# Altium footprint library RHD2000_eval_board.PCBLIB: 44 footprints (part 3 of 3)
Each footprint in its own frame and in the unit in brackets; x right, y up, seen from the top. Pads: shape width x height; smd on the part's side, far side on the other; paste and mask are expansions set on the pad; w line width, h text height; cw(c..) or ccw(c..) is an arc to the next point about the centre after c.
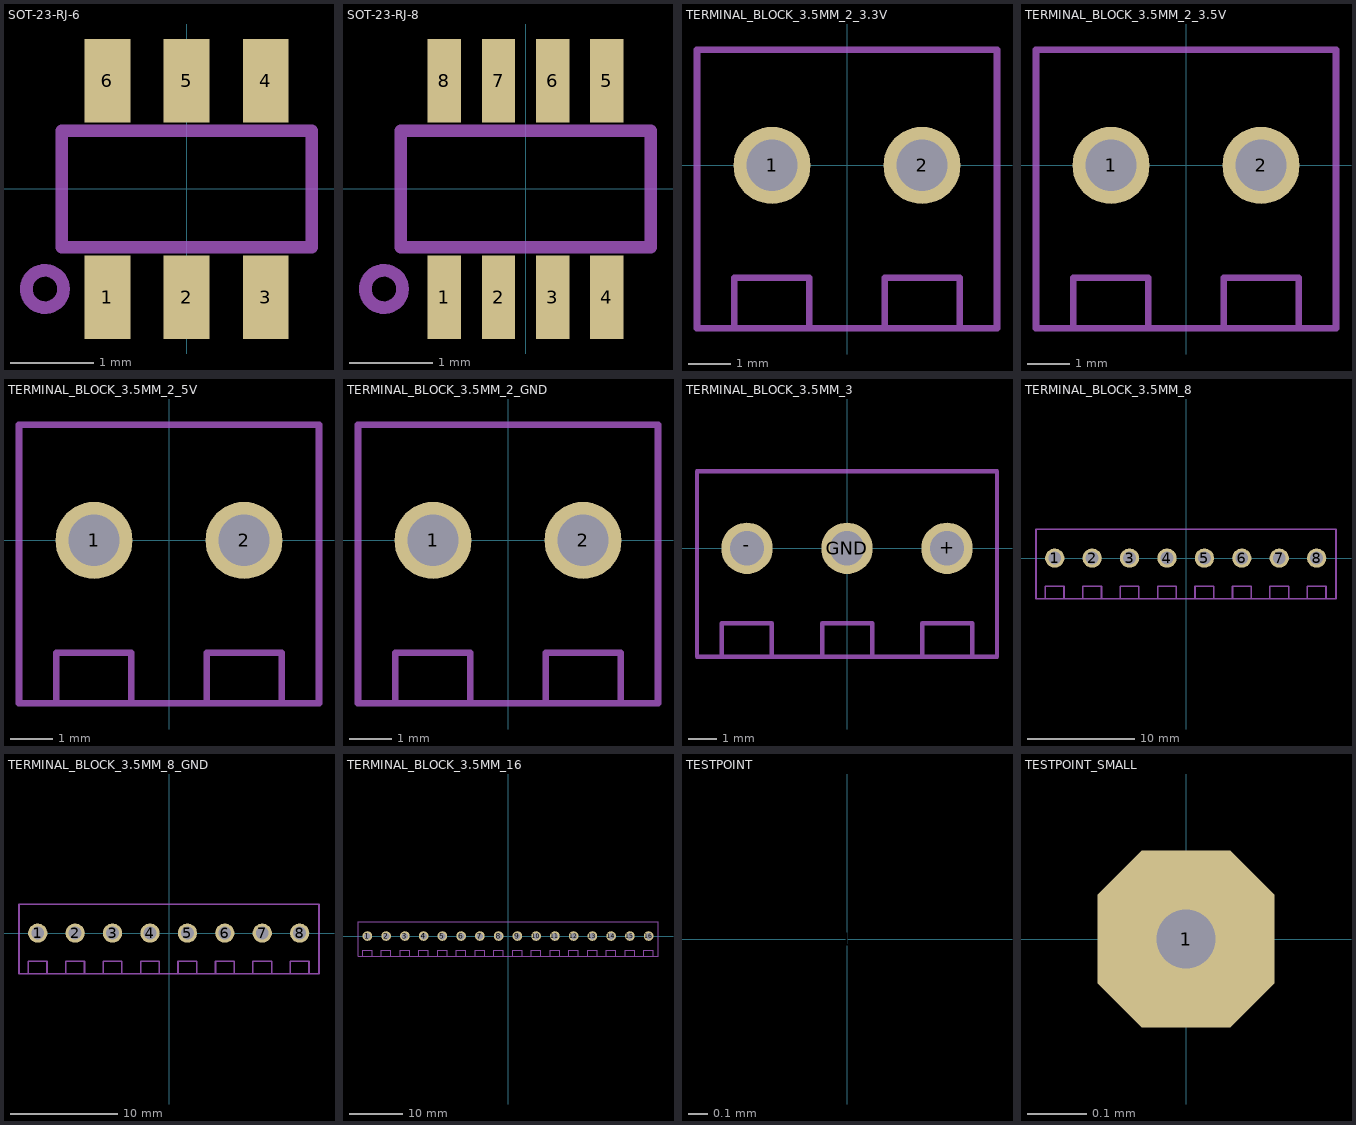
[diagram p2: the footprints below, top view; thin cyan lines are the x and y axes]

## SOT-23-RJ-6 [mm]
pads (6):
  rect 0.55x1 smd: 1(-0.95,-1.3) 2(0,-1.3) 3(0.95,-1.3) 4(0.95,1.3) 5(0,1.3) 6(-0.95,1.3)
Mechanical 22:
  circle w0.152: c-1.7,-1.2 r0.224
  lines w0.152: -1.5,-0.7 -1.5,0.7 1.5,0.7 1.5,-0.7 -1.5,-0.7

## SOT-23-RJ-8 [mm]
pads (8):
  rect 0.4x1 smd: 1(-0.975,-1.3) 2(-0.325,-1.3) 3(0.325,-1.3) 4(0.975,-1.3) 5(0.975,1.3) 6(0.325,1.3) 7(-0.325,1.3) 8(-0.975,1.3)
Mechanical 22:
  circle w0.152: c-1.7,-1.2 r0.224
  lines w0.152: -1.5,-0.7 1.5,-0.7 1.5,0.7 -1.5,0.7 -1.5,-0.7

## TERMINAL_BLOCK_3.5MM_2_3.3V [mil]
pads (2):
  round 70.86 / inner round 60 / far side round 70.86 hole 47.24: 1(-68.9,0) 2(68.9,0)
Mechanical 22:
  lines w6: -103.54,-149.61 -34.65,-149.61 ; -103.54,-149.61 -137.8,-149.61 -137.8,106.3 137.8,106.3 137.8,-149.61 103.54,-149.61 ; -103.54,-149.61 -103.54,-103.35 -34.65,-103.35 -34.65,-149.61 ; -34.65,-149.61 34.65,-149.61 ; 34.65,-149.61 103.54,-149.61 ; 34.65,-149.61 34.65,-103.35 103.54,-103.35 103.54,-149.61

## TERMINAL_BLOCK_3.5MM_2_3.5V [mil]
pads (2):
  round 70.86 / inner round 60 / far side round 70.86 hole 47.24: 1(-68.9,0) 2(68.9,0)
Mechanical 22:
  lines w6: -103.54,-149.61 -34.65,-149.61 ; -103.54,-149.61 -137.8,-149.61 -137.8,106.3 137.8,106.3 137.8,-149.61 103.54,-149.61 ; -103.54,-149.61 -103.54,-103.35 -34.65,-103.35 -34.65,-149.61 ; -34.65,-149.61 34.65,-149.61 ; 34.65,-149.61 103.54,-149.61 ; 34.65,-149.61 34.65,-103.35 103.54,-103.35 103.54,-149.61

## TERMINAL_BLOCK_3.5MM_2_5V [mil]
pads (2):
  round 70.86 / inner round 60 / far side round 70.86 hole 47.24: 1(-68.9,0) 2(68.9,0)
Mechanical 22:
  lines w6: -103.54,-149.61 -34.65,-149.61 ; -103.54,-149.61 -137.8,-149.61 -137.8,106.3 137.8,106.3 137.8,-149.61 103.54,-149.61 ; -103.54,-149.61 -103.54,-103.35 -34.65,-103.35 -34.65,-149.61 ; -34.65,-149.61 34.65,-149.61 ; 34.65,-149.61 103.54,-149.61 ; 34.65,-149.61 34.65,-103.35 103.54,-103.35 103.54,-149.61

## TERMINAL_BLOCK_3.5MM_2_GND [mil]
pads (2):
  round 70.86 / inner round 60 / far side round 70.86 hole 47.24: 1(-68.9,0) 2(68.9,0)
Mechanical 22:
  lines w6: -103.54,-149.61 -34.65,-149.61 ; -103.54,-149.61 -137.8,-149.61 -137.8,106.3 137.8,106.3 137.8,-149.61 103.54,-149.61 ; -103.54,-149.61 -103.54,-103.35 -34.65,-103.35 -34.65,-149.61 ; -34.65,-149.61 34.65,-149.61 ; 34.65,-149.61 103.54,-149.61 ; 34.65,-149.61 34.65,-103.35 103.54,-103.35 103.54,-149.61

## TERMINAL_BLOCK_3.5MM_3 [mil]
pads (3):
  round 70.86 / inner round 60 / far side round 70.86 hole 47.24: +(137.8,0) -(-137.8,0) GND(0,0)
Mechanical 22:
  lines w6: 103.54,-149.61 103.54,-103.35 172.44,-103.35 172.44,-149.61 ; -172.44,-149.61 -103.54,-149.61 ; -172.44,-149.61 -206.69,-149.61 -206.69,106.3 206.69,106.3 206.69,-149.61 34.65,-149.61 ; -172.44,-149.61 -172.44,-103.35 -103.54,-103.35 -103.54,-149.61 ; -103.54,-149.61 -34.25,-149.61 ; -34.25,-149.61 34.65,-149.61 ; -34.25,-149.61 -34.25,-103.35 34.65,-103.35 34.65,-149.61

## TERMINAL_BLOCK_3.5MM_8 [mm]
pads (8):
  round 1.8 / inner round 1.524 / far side round 1.8 hole 1.2: 1(-12.28,0) 2(-8.78,0) 3(-5.28,0) 4(-1.78,0) 5(1.72,0) 6(5.22,0) 7(8.72,0) 8(12.22,0)
Mechanical 22:
  lines w0.152: -9.655,-3.8 -9.655,-2.625 -7.905,-2.625 -7.905,-3.8 ; -6.155,-3.8 -6.155,-2.625 -4.405,-2.625 -4.405,-3.8 ; -2.655,-3.8 -2.655,-2.625 -0.905,-2.625 -0.905,-3.8 ; 0.845,-3.8 0.845,-2.625 2.595,-2.625 2.595,-3.8 ; 4.345,-3.8 4.345,-2.625 6.095,-2.625 6.095,-3.8 ; 7.845,-3.8 7.845,-2.625 9.595,-2.625 9.595,-3.8 ; 11.345,-3.8 11.345,-2.625 13.095,-2.625 13.095,-3.8 ; -13.155,-3.8 -13.155,-2.625 -11.405,-2.625 -11.405,-3.8 ; -13.155,-3.8 -14.03,-3.8 -14.03,2.7 14.03,2.7 14.03,-3.8 -11.405,-3.8 ; -13.155,-3.8 -11.405,-3.8

## TERMINAL_BLOCK_3.5MM_8_GND [mm]
pads (8):
  round 1.8 / inner round 1.524 / far side round 1.8 hole 1.2: 1(-12.28,0) 2(-8.78,0) 3(-5.28,0) 4(-1.78,0) 5(1.72,0) 6(5.22,0) 7(8.72,0) 8(12.22,0)
Mechanical 22:
  lines w0.152: -9.655,-3.8 -9.655,-2.625 -7.905,-2.625 -7.905,-3.8 ; -6.155,-3.8 -6.155,-2.625 -4.405,-2.625 -4.405,-3.8 ; -2.655,-3.8 -2.655,-2.625 -0.905,-2.625 -0.905,-3.8 ; 0.845,-3.8 0.845,-2.625 2.595,-2.625 2.595,-3.8 ; 4.345,-3.8 4.345,-2.625 6.095,-2.625 6.095,-3.8 ; 7.845,-3.8 7.845,-2.625 9.595,-2.625 9.595,-3.8 ; 11.345,-3.8 11.345,-2.625 13.095,-2.625 13.095,-3.8 ; -13.155,-3.8 -11.405,-3.8 ; -13.155,-3.8 -14.03,-3.8 -14.03,2.7 14.03,2.7 14.03,-3.8 -11.405,-3.8 ; -13.155,-3.8 -13.155,-2.625 -11.405,-2.625 -11.405,-3.8

## TERMINAL_BLOCK_3.5MM_16 [mm]
pads (16):
  round 1.8 / inner round 1.524 / far side round 1.8 hole 1.2: 1(-26.25,0) 2(-22.75,0) 3(-19.25,0) 4(-15.75,0) 5(-12.25,0) 6(-8.75,0) 7(-5.25,0) 8(-1.75,0) 9(1.75,0) 10(5.25,0) 11(8.75,0) 12(12.25,0) 13(15.75,0) 14(19.25,0) 15(22.75,0) 16(26.25,0)
Mechanical 22:
  lines w0.152: -23.625,-3.8 -23.625,-2.625 -21.875,-2.625 -21.875,-3.8 ; -20.125,-3.8 -20.125,-2.625 -18.375,-2.625 -18.375,-3.8 ; -16.625,-3.8 -16.625,-2.625 -14.875,-2.625 -14.875,-3.8 ; -13.125,-3.8 -13.125,-2.625 -11.375,-2.625 -11.375,-3.8 ; -9.625,-3.8 -9.625,-2.625 -7.875,-2.625 -7.875,-3.8 ; -6.125,-3.8 -6.125,-2.625 -4.375,-2.625 -4.375,-3.8 ; -2.625,-3.8 -2.625,-2.625 -0.875,-2.625 -0.875,-3.8 ; 0.875,-3.8 0.875,-2.625 2.625,-2.625 2.625,-3.8 ; 4.375,-3.8 4.375,-2.625 6.125,-2.625 6.125,-3.8 ; 7.875,-3.8 7.875,-2.625 9.625,-2.625 9.625,-3.8 ; 11.375,-3.8 11.375,-2.625 13.125,-2.625 13.125,-3.8 ; 14.875,-3.8 14.875,-2.625 16.625,-2.625 16.625,-3.8 ; 18.375,-3.8 18.375,-2.625 20.125,-2.625 20.125,-3.8 ; 21.875,-3.8 21.875,-2.625 23.625,-2.625 23.625,-3.8 ; 25.375,-3.8 25.375,-2.625 27.125,-2.625 27.125,-3.8 ; -27.125,-3.8 -27.125,-2.625 -25.375,-2.625 -25.375,-3.8 ; -27.125,-3.8 -28,-3.8 -28,2.7 28,2.7 28,-3.8 -25.375,-3.8 ; -27.125,-3.8 -25.375,-3.8

## TESTPOINT [mil]
pads (1):
  round 60 on Drill Guide: 1(0,0)

## TESTPOINT_SMALL [mm]
pads (1):
  oct 0.3x0.3 hole 0.1: 1(0,0)